# EAGLE library part LH430WV2-SD01 (library circuit_tree)
IC
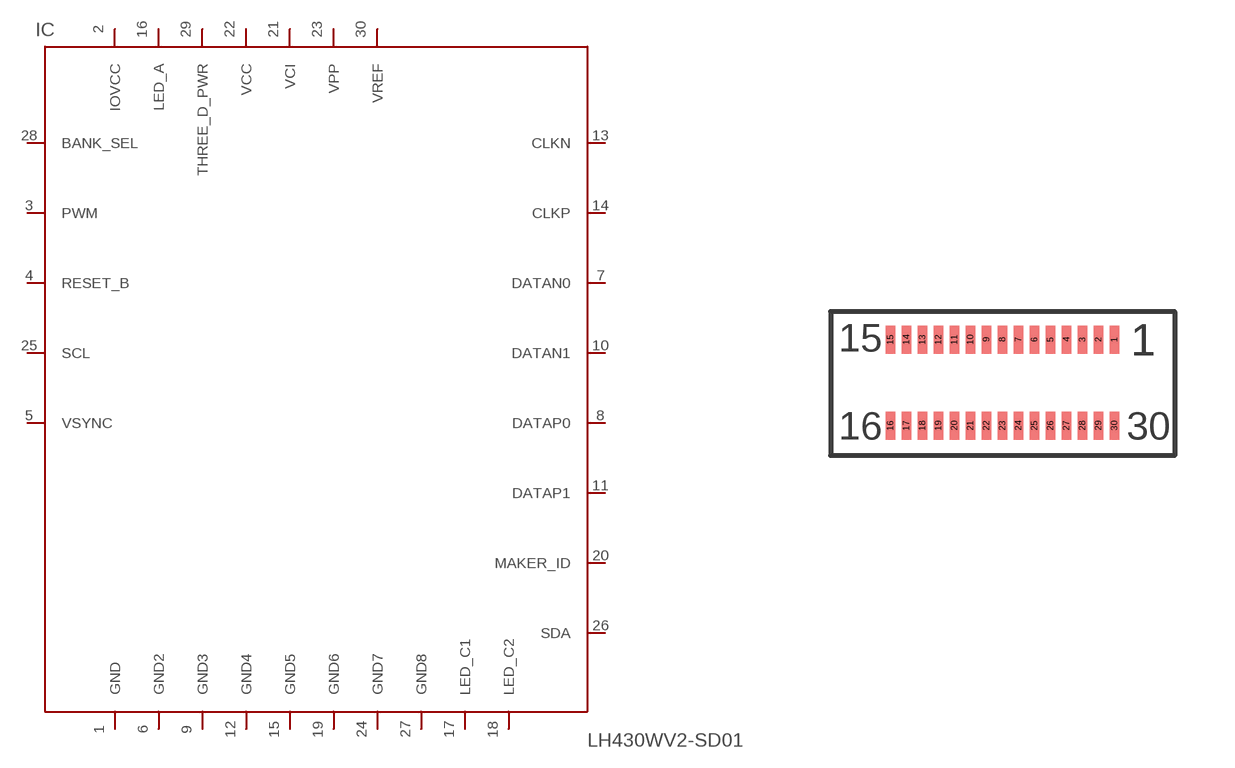
[diagram p5: symbol with the pads of LH430WV2-SD01; footprint LH430WV2-SD01]

Designator prefix IC

## LH430WV2-SD01  [LH430WV2-SD01]
1  GND  pas
2  IOVCC  pas
3  PWM  pas
4  RESET_B  pas
5  VSYNC  pas
6  GND2  pas
7  DATAN0  pas
8  DATAP0  pas
9  GND3  pas
10  DATAN1  pas
11  DATAP1  pas
12  GND4  pas
13  CLKN  pas
14  CLKP  pas
15  GND5  pas
16  LED_A  pas
17  LED_C1  pas
18  LED_C2  pas
19  GND6  pas
20  MAKER_ID  pas
21  VCI  pas
22  VCC  pas
23  VPP  pas
24  GND7  pas
25  SCL  pas
26  SDA  pas
27  GND8  pas
28  BANK_SEL  pas
29  THREE_D_PWR  pas
30  VREF  pas

## Footprint LH430WV2-SD01 (pad centres in mm)
smd 0.23 x 0.7: 1 0,0; 2 -0.4,0; 3 -0.8,0; 4 -1.2,0; 5 -1.6,0; 6 -2,0; 7 -2.4,0; 8 -2.8,0; 9 -3.2,0; 10 -3.6,0; 11 -4,0; 12 -4.4,0; 13 -4.8,0; 14 -5.2,0; 15 -5.6,0; 16 -5.6,-2.15; 17 -5.2,-2.15; 18 -4.8,-2.15; 19 -4.4,-2.15; 20 -4,-2.15; 21 -3.6,-2.15; 22 -3.2,-2.15; 23 -2.8,-2.15; 24 -2.4,-2.15; 25 -2,-2.15; 26 -1.6,-2.15; 27 -1.2,-2.15; 28 -0.8,-2.15; 29 -0.4,-2.15; 30 0,-2.15